# Altium footprint library pcbSMDv1.PcbLib: 30 footprints (part 1 of 2)
Each footprint in its own frame and in the unit in brackets; x right, y up, seen from the top. Pads: shape width x height; smd on the part's side, far side on the other; paste and mask are expansions set on the pad; w line width, h text height; cw(c..) or ccw(c..) is an arc to the next point about the centre after c.
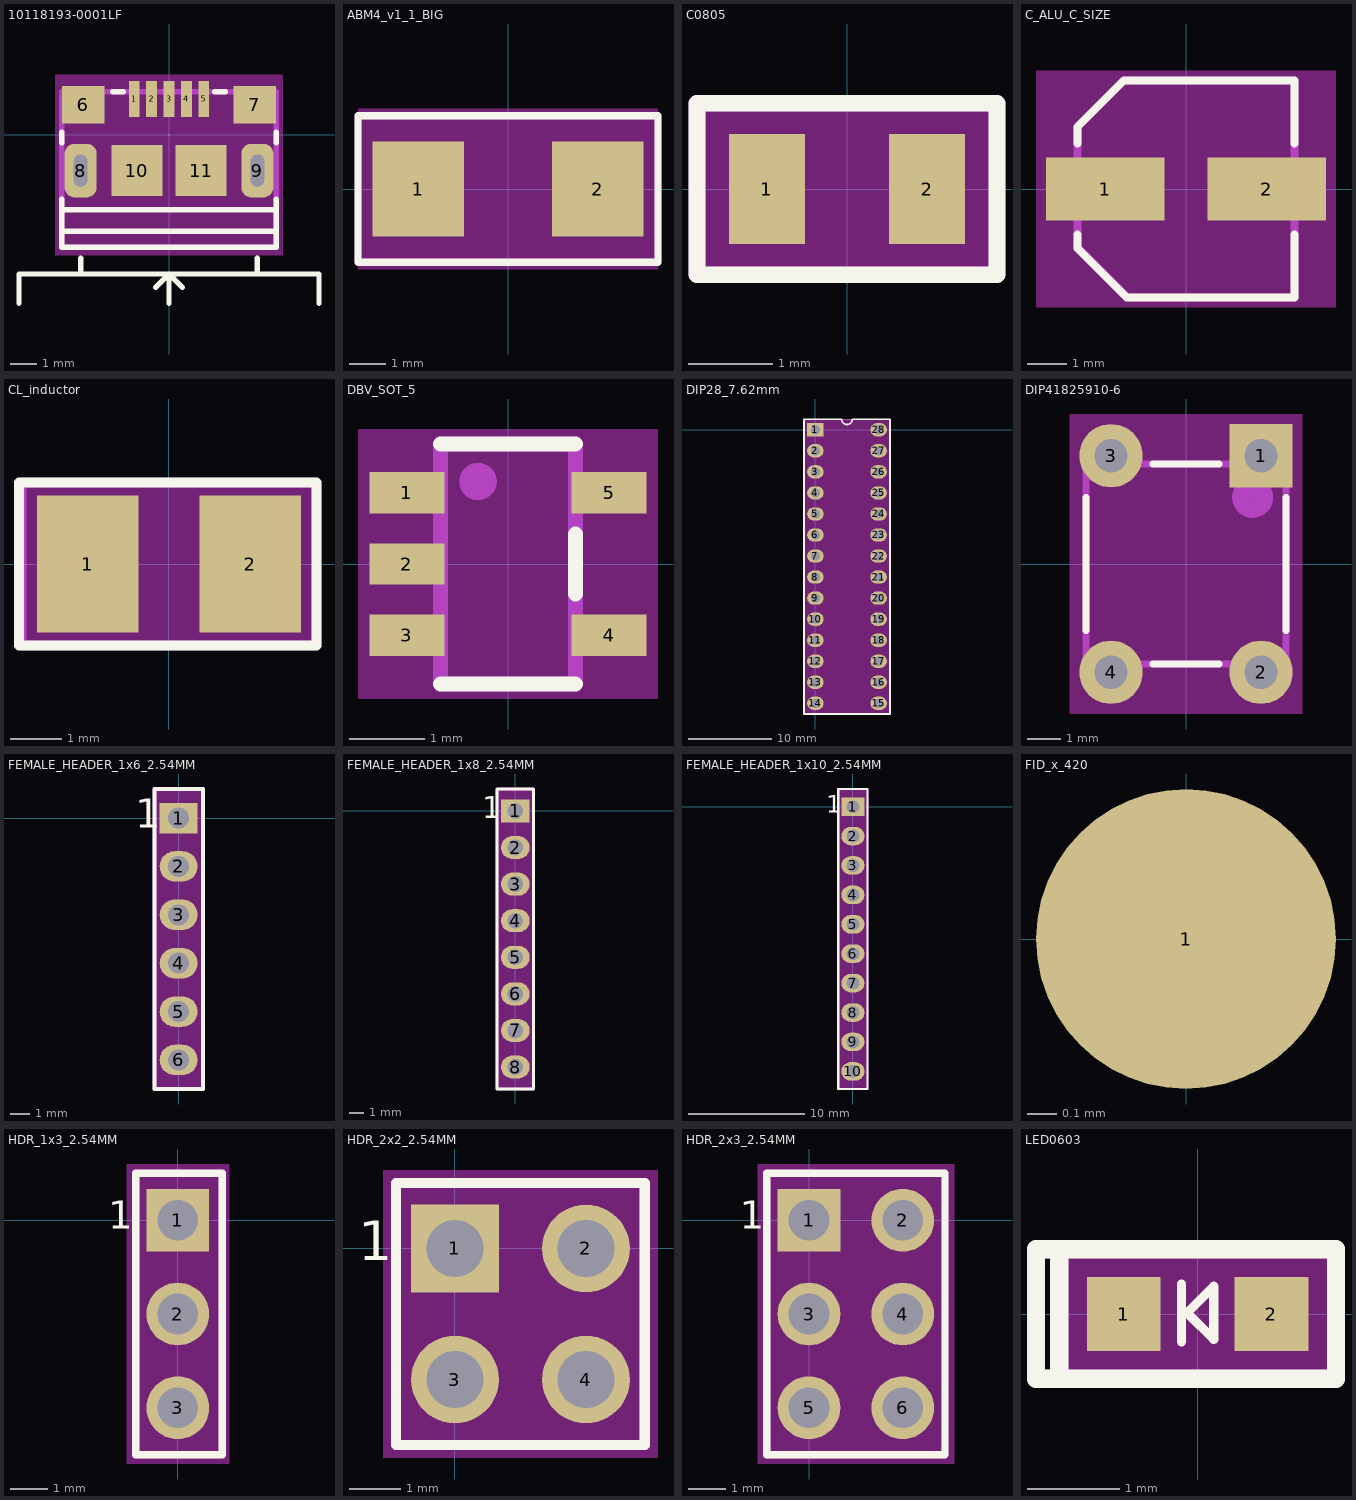
[diagram p0: the footprints below, top view; thin cyan lines are the x and y axes]

## 10118193-0001LF [mm]
pads (11):
  rect 0.4x1.35 smd mask+0.05: 1(-1.3,1.338) 2(-0.65,1.338) 3(0,1.338) 4(0.65,1.338) 5(1.3,1.338)
  rect 1.6x1.4 smd: 6(-3.2,1.112) 7(3.2,1.112)
  rrect60% 1.2x2 hole 0.5 slot 1.2 at 90 deg mask+0.05: 8(-3.3,-1.338) 9(3.3,-1.338)
  rect 1.9x1.9 smd: 10(-1.2,-1.338) 11(1.2,-1.338)
Top Overlay:
  lines w0.2: -5.6,-6.3 -5.6,-5.2 5.6,-5.2 5.6,-6.3 ; -4,-3.6 4,-3.6 ; -4,-2.4 -4,-4.2 4,-4.2 4,-2.4 ; -4,-0.3 -4,0.1 ; -3.9,-2.8 4,-2.8 ; -3.3,-5.2 -3.3,-4.6 ; -2.1,1.6 -1.7,1.6 ; -0.5,-5.7 0,-5.2 ; 0,-6.3 0,-5.2 ; 0.5,-5.7 0,-5.2 ; 1.7,1.6 2.1,1.6 ; 3.3,-5.2 3.3,-4.6 ; 4,-0.3 4,0.1
Keep-Out Layer:
  rectangle: -4.25,-4.5 4.25,2.25
Mechanical 24:
  lines w0.2: -4,-4.2 -4,1.6 4,1.6 4,-4.2 -4,-4.2
  text ".Designator" at -1.246,-1.738 h1.52
3D body "10118193-0001lfc.stp": height 2.88, standoff -0.92, extent -3.932,-4.204 3.925,1.579

## ABM4_v1_1_BIG [mm]
pads (2):
  rect 2.5x2.6 smd: 1(-2.45,0) 2(2.45,0)
Top Overlay:
  lines w0.2: -4.1,-2 -4.1,2 4.1,2 4.1,-2 -4.1,-2
Keep-Out Layer:
  rectangle: -4.1,-2.2 4.1,2.2
Mechanical 24:
  lines w0.2: -4.1,-2 -4.1,2 4.1,2 4.1,-2 -4.1,-2
  text ".Designator" at -2.046,-0.638 h1.52
3D body "User Library-Xtal-ABM7.STEP": height 1.41, standoff 0.01, extent -3.1,-1.85 3.1,1.85

## C0805 [mm]
pads (2):
  rect 0.9x1.3 smd: 1(-0.95,0) 2(0.95,0)
Top Overlay:
  lines w0.2: -1.778,-1.016 -1.778,1.016 1.778,1.016 1.778,-1.016 -1.778,-1.016
Keep-Out Layer:
  rectangle: -1.778,-1.016 1.778,1.016
Mechanical 24:
  lines w0.2: -1.778,-1.016 -1.778,1.016 0.254,1.016 1.778,1.016 1.778,-1.016 -1.778,-1.016
  text ".Designator" at -1.118,-0.525 h1.02
3D body "c0805x472j2gacauto.stp": height 1.53, standoff -0.02, extent -1.15,-0.508 1.15,0.492

## C_ALU_C_SIZE [mm]
pads (2):
  rect 3x1.6 smd: 1(-2.05,0) 2(2.05,0)
Top Overlay:
  lines w0.2: -2.75,-1.15 -2.75,-1.5 -2.438,-1.812 -1.813,-2.437 -1.5,-2.75 2.75,-2.75 2.75,-1.15 ; -2.75,1.15 -2.75,1.575 -2.456,1.869 -1.869,2.456 -1.575,2.75 2.75,2.75 2.75,1.15
Keep-Out Layer:
  rectangle: -3.8,-3 3.8,3
Mechanical 24:
  lines w0.2: -2.75,-1.475 -1.475,-2.75 2.75,-2.75 2.75,2.75 -1.575,2.75 -2.75,1.575 -2.75,-1.475
  text ".Designator" at -1.846,-0.538 h1.52
3D body "User Library-capacitor size C.step": height 5.41, standoff -0.01, extent -2.925,-2.625 2.975,2.675

## CL_inductor [mm]
pads (2):
  rect 2x2.7 smd: 1(-1.6,0) 2(1.6,0)
Top Overlay:
  lines w0.2: -2.95,-1.6 -2.95,0 -2.95,1.6 2.9,1.6 2.9,-1.6 -2.95,-1.6
Keep-Out Layer:
  rectangle: -2.9,-1.6 2.9,1.6
Mechanical 24:
  lines w0.2: -2.9,-1.6 -2.9,1.6 2.9,1.6 2.9,-1.6 -2.9,-1.6
  text ".Designator" at -1.346,-0.538 h1.52
3D body: height 2.7, standoff -0.01, extent -1.4,-1.25 1.4,1.25
3D body: height 2.7, standoff -0.01, extent 1.4,-1.25 1.7,1.25
3D body: height 2.7, standoff -0.01, extent -1.7,-1.25 -1.4,1.25

## DBV_SOT_5 [mm]
pads (5):
  rect 1x0.55 smd: 1(-1.35,0.95) 2(-1.35,0) 3(-1.35,-0.95) 4(1.35,-0.95) 5(1.35,0.95)
Top Overlay:
  lines w0.2: -0.9,-1.6 0.9,-1.6 ; -0.9,1.6 0.9,1.6 ; 0.9,-0.4 0.9,0.4
Keep-Out Layer:
  rectangle: -2,-1.8 2,1.8
Mechanical 24:
  circle w0.3: c-0.4,1.1 r0.1
  lines w0.2: -0.9,-1.6 -0.9,-1.4 -0.9,1.6 0.9,1.6 0.9,-1.6 -0.9,-1.6
  text ".Designator" at -0.317,0.85 h1
3D body "User Library-TPS79333DBVR.STEP": height 1.6, standoff -0.02, extent -1.527,-1.525 1.5,1.525

## DIP28_7.62mm [mm]
pads (28):
  rect 2x1.6 hole 1.1: 1(0,0)
  oval 2x1.6 hole 1.1: 2(0,-2.54) 3(0,-5.08) 4(0,-7.62) 5(0,-10.16) 6(0,-12.7) 7(0,-15.24) 8(0,-17.78) 9(0,-20.32) 10(0,-22.86) 11(0,-25.4) 12(0,-27.94) 13(0,-30.48) 14(0,-33.02) 15(7.62,-33.02) 16(7.62,-30.48) 17(7.62,-27.94) 18(7.62,-25.4) 19(7.62,-22.86) 20(7.62,-20.32) 21(7.62,-17.78) 22(7.62,-15.24) 23(7.62,-12.7) 24(7.62,-10.16) 25(7.62,-7.62) 26(7.62,-5.08) 27(7.62,-2.54) 28(7.62,0)
Top Overlay:
  lines w0.2: -1.39,-34.31 -1.39,1.27 3.175,1.27 ccw(c3.81,1.27) 4.445,1.27 9.01,1.27 9.01,-34.31 -1.39,-34.31
Keep-Out Layer:
  rectangle: -1.382,-34.31 9.01,1.231
Mechanical 24:
  circle w1: c0.01,-0.01 r0.141
  lines w0.125: -1.39,-34.31 -1.39,1.29 9.01,1.29 9.01,-34.31 -1.39,-34.31
  text ".Designator" at 5.31,-21.61 h3
3D body "User Library-DIP-28P-M04.step": height 5.2, standoff -3, extent -0.06,-34.21 7.81,1.19

## DIP41825910-6 [mm]
pads (4):
  rect 1.9x1.9 hole 1: 1(2.25,3.25)
  round 1.9 hole 1: 2(2.25,-3.25) 3(-2.25,3.25) 4(-2.25,-3.25)
Top Overlay:
  lines w0.2: -3,-2 -3,2 ; -1,-3 1,-3 ; -1,3 1,3 ; 3,-2 3,2
Keep-Out Layer:
  rectangle: -3.5,-4.5 3.5,4.5
Mechanical 24:
  circle w0.6: c2,2 r0.316
  lines w0.2: -3,-3 3,-3 3,3 -3,3 -3,-3
  text ".Designator" at -1.646,-0.738 h1.52
3D body "User Library-FSM4JLH(1825910-5).STEP": height 5, standoff -3.51, extent -2.995,-3.899 2.995,3.9

## FEMALE_HEADER_1x6_2.54MM [mm]
pads (6):
  rect 2x1.6 hole 1.1: 1(0,0)
  oval 2x1.6 hole 1.1: 2(0,-2.54) 3(0,-5.08) 4(0,-7.62) 5(0,-10.16) 6(0,-12.7)
Top Overlay:
  lines w0.2: -1.27,-14.224 -0.635,-14.224 0.635,-14.224 1.27,-14.224 1.27,1.524 -1.27,1.524 -1.27,-14.224
  text "1" at -2.286,-0.508 h1.52
Keep-Out Layer:
  rectangle: -1.27,-14.224 1.27,1.524
Mechanical 24:
  circle w0.5: c0,0 r0.359
  lines w0.2: -1.27,-14.224 -1.27,1.524 1.27,1.524 1.27,-14.224 -1.27,-14.224
  text ".Designator" at 0.762,-9.144 h1.52
3D body "m20-7820642_asm.stp": height 8.61, standoff -2.89, extent -1.25,-14.17 1.25,1.47

## FEMALE_HEADER_1x8_2.54MM [mm]
pads (8):
  rect 2x1.6 hole 1.1: 1(0,0)
  oval 2x1.6 hole 1.1: 2(0,-2.54) 3(0,-5.08) 4(0,-7.62) 5(0,-10.16) 6(0,-12.7) 7(0,-15.24) 8(0,-17.78)
Top Overlay:
  lines w0.2: -1.27,-19.304 -0.635,-19.304 0.635,-19.304 1.27,-19.304 1.27,1.524 -1.27,1.524 -1.27,-19.304
  text "1" at -2.286,-0.508 h1.52
Keep-Out Layer:
  rectangle: -1.27,-19.304 1.27,1.524
Mechanical 24:
  circle w0.5: c0,0 r0.359
  lines w0.2: -1.27,-19.304 -1.27,1.524 1.27,1.524 1.27,-19.304 -1.27,-19.304
  text ".Designator" at 0.508,-16.764 h1.52
3D body "m20-7820842_asm.stp": height 8.61, standoff -2.89, extent -1.25,-19.304 1.25,1.416

## FEMALE_HEADER_1x10_2.54MM [mm]
pads (10):
  rect 2x1.6 hole 1.1: 1(0,0)
  oval 2x1.6 hole 1.1: 2(0,-2.54) 3(0,-5.08) 4(0,-7.62) 5(0,-10.16) 6(0,-12.7) 7(0,-15.24) 8(0,-17.78) 9(0,-20.32) 10(0,-22.86)
Top Overlay:
  lines w0.2: -1.27,-24.384 -1.27,1.524 1.27,1.524 1.27,-24.384 -1.27,-24.384
  text "1" at -2.286,-0.508 h1.52
Keep-Out Layer:
  rectangle: -1.27,-24.384 1.27,1.524
Mechanical 24:
  circle w0.5: c0,0 r0.359
  lines w0.2: -1.27,-24.384 1.27,-24.384 1.27,1.524 -1.27,1.524 -1.27,-24.384
  text ".Designator" at 0.508,-16.764 h1.52
3D body "m20-7821046_asm.stp": height 8.59, standoff -2.91, extent -1.23,-24.33 1.27,1.47

## FID_x_420 [mil]
pads (1):
  round 40 smd paste-40 mask+40: 1(0,0)

## HDR_1x3_2.54MM [mm]
pads (3):
  rect 1.7x1.7 hole 1.1: 1(0,0)
  round 1.7 hole 1.1: 2(0,-2.54) 3(0,-5.08)
Top Overlay:
  lines w0.2: -1.143,-6.35 1.2,-6.35 1.2,1.27 -1.143,1.27 -1.143,-6.35
  text "1" at -1.88,-0.229 h0.76
Keep-Out Layer:
  rectangle: -1.397,-6.604 1.4,1.524
Mechanical 24:
  circle w0.5: c0,0 r0.284
  lines w0.2: -1.143,-6.35 -1.143,1.27 1.2,1.27 1.2,-6.35 -1.143,-6.35
  text ".Designator" at -2.159,-5.08 h1.52
3D body "HDR_1x3_White.stp": height 8.19, standoff -3.31, extent -1.2,-6.11 1.21,1.11

## HDR_2x2_2.54MM [mm]
pads (4):
  rect 1.7x1.7 hole 1.1: 1(0,0)
  round 1.7 hole 1.1: 2(2.54,0) 3(0,-2.54) 4(2.54,-2.54)
Top Overlay:
  lines w0.2: -1.143,-3.81 3.683,-3.81 3.683,1.27 -1.143,1.27 -1.143,-3.81
  text "1" at -1.88,-0.229 h0.76
Keep-Out Layer:
  rectangle: -1.397,-4.064 3.937,1.524
Mechanical 24:
  circle w0.5: c0,0 r0.284
  lines w0.2: -1.143,-3.81 -1.143,1.27 3.683,1.27 3.683,-3.81 -1.143,-3.81
  text ".Designator" at -2.159,-2.54 h1.52
3D body "961204-6404-XX.stp": height 7.5, standoff -3.8, extent -1.397,-3.77 3.683,1.23

## HDR_2x3_2.54MM [mm]
pads (6):
  rect 1.7x1.7 hole 1.1: 1(0,0)
  round 1.7 hole 1.1: 2(2.54,0) 3(0,-2.54) 4(2.54,-2.54) 5(0,-5.08) 6(2.54,-5.08)
Top Overlay:
  lines w0.2: -1.143,-6.35 -1.143,1.27 3.683,1.27 3.683,-6.35 -1.143,-6.35
  text "1" at -1.88,-0.229 h0.76
Keep-Out Layer:
  rectangle: -1.397,-6.604 3.937,1.524
Mechanical 24:
  circle w0.5: c0,0 r0.284
  lines w0.2: -1.143,-6.35 3.683,-6.35 3.683,1.27 -1.143,1.27 -1.143,-6.35
  text ".Designator" at -2.159,-5.08 h1.52
3D body "User Library-Header3x2_100_TH.STEP": height 8.45, standoff -2.53, extent -1.269,-6.35 3.811,1.27

## LED0603 [mm]
pads (2):
  rect 0.8x0.8 smd: 1(-0.8,0) 2(0.8,0)
Top Overlay:
  lines w0.1: -0.175,-0.3 -0.175,0.325 ; -0.1,0 -0.1,0.025 0.175,0.3 0.175,-0.275 -0.1,0
  lines w0.2: -1.5,-0.7 1.5,-0.7 1.5,0.7 -1.5,0.7 ; -1.5,-0.7 -1.5,0 -1.5,0.7 ; -1.5,-0.7 -1.75,-0.7 -1.75,0.7 -1.5,0.7
Keep-Out Layer:
  rectangle: -1.5,-0.7 1.475,0.7
Mechanical 24:
  lines w0.2: -1.5,-0.6 -1.5,0.675 ; -1.75,-0.7 -1.75,0.7 1.5,0.7 1.5,-0.7 -1.75,-0.7
  text ".Designator" at -1,1.083 h1
3D body "User Library-LED SMD 0603 super red.STEP": height 0.65, standoff 0, extent -0.85,-0.4 0.85,0.4